# EAGLE library part I__4096 (library ..SMD)
Inverting gated JK master slave FLIP FLOP
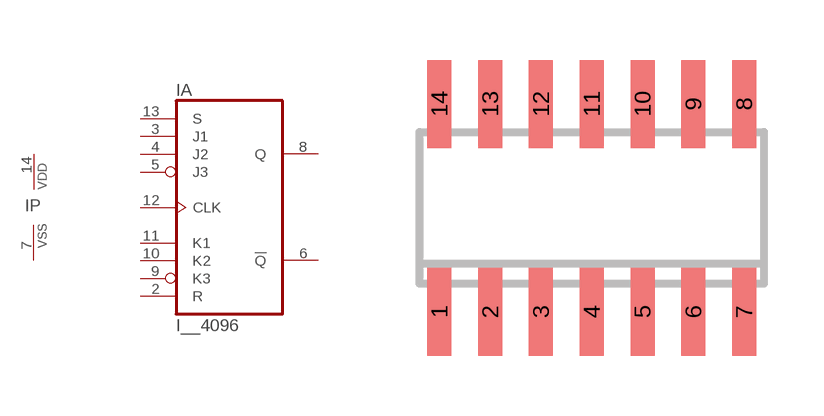
[diagram p76: symbol with the pads of SO14; footprint SO14]

Designator prefix I; gates A=4096 P=PWRN

## I__4096D  [SO14]
2  A:R  in
3  A:J1  in
4  A:J2  in
5  A:J3  in
6  A:!Q  out
7  P:VSS  pwr
8  A:Q  out
9  A:K3  in
10  A:K2  in
11  A:K1  in
12  A:CLK  in
13  A:S  in
14  P:VDD  pwr

## Footprint SO14 (pad centres in mm)
Small Outline Package 14
smd 0.6 x 2.2: 1 -3.81,-2.6; 2 -2.54,-2.6; 3 -1.27,-2.6; 4 0,-2.6; 5 1.27,-2.6; 6 2.54,-2.6; 7 3.81,-2.6; 8 3.81,2.6; 9 2.54,2.6; 10 1.27,2.6; 11 0,2.6; 12 -1.27,2.6; 13 -2.54,2.6; 14 -3.81,2.6